# Altium schematic symbol library HDMI Connectors.SchLib: 3 symbols
Pins are listed as number, name and electrical type; pins without a type are passive.

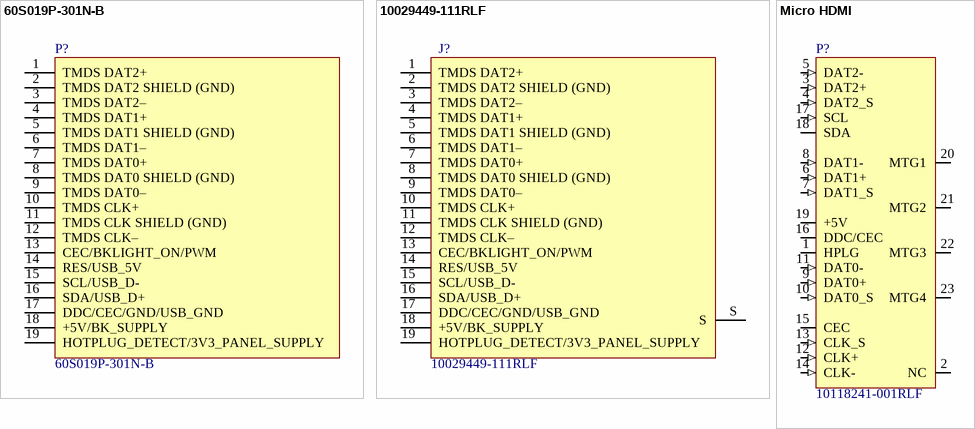
[diagram p0: symbols 60S019P-301N-B to Micro HDMI]

## 60S019P-301N-B
designator P?
HDMI, Mini, 19p PLUG, PC BMOUNT; Value: 60S019P-301N-B
footprint 60S019P-301N-B
pins: 1 TMDS DAT2+ , 2 TMDS DAT2 SHIELD (GND), 3 TMDS DAT2–, 4 TMDS DAT1+, 5 TMDS DAT1 SHIELD (GND), 6 TMDS DAT1–, 7 TMDS DAT0+ , 8 TMDS DAT0 SHIELD (GND), 9 TMDS DAT0–, 10 TMDS CLK+ , 11 TMDS CLK SHIELD (GND), 12 TMDS CLK–, 13 CEC/BKLIGHT_ON/PWM, 14 RES/USB_5V, 15 SCL/USB_D-, 16 SDA/USB_D+, 17 DDC/CEC/GND/USB_GND, 18 +5V/BK_SUPPLY, 19 HOTPLUG_DETECT/3V3_PANEL_SUPPLY

## 10029449-111RLF
designator J?
CONN HDMI RECPT 19POS SMT R/A; Manufacturer: Amphenol FCI; Number of Contacts: 19; Gender: Receptacle; Specifications: HDMI™ 1.4; Number of Ports: 1; Current Rating: 0.5A; Voltage - Rated: 40V; Mating Cycles: 10000; Shielding: Shielded; Material Flammability Rating: UL94 V-0; Supplier 1: Digi-Key; Manufacturer Part Number: 10029449-111RLF; RoHS: RoHS Compliant; Category: Connectors, Interconnects; Stock 1: 32951; Pricing 1: 1=0.74, 10=0.69, 25=0.6212, 50=0.5522, 100=0.5293 (USD); Packaging: Cut Tape (CT); Part Status: Active; Connector Type: HDMI; Mounting Type: Surface Mount, Right Angle; Through Hole; Mounting Feature: Horizontal; Termination: Solder; Features: -; Ingress Protection: -; Operating Temperature: -20°C ~ 85°C; Contact Finish: Gold; Shell/Shielding Material: Brass; Insulation Color: Black; ComponentLink1URL: http://portal.fciconnect.com/Comergent//fci/drawing/10029449.pdf; ComponentLink1Description: http://portal.fciconnect.com/Comergent//fci/drawing/10029449.pdf; Value: 10029449-111RLF; Supplier Part Number 1: 609-4614-1-ND
footprint 10029449-111RLF
pins: 1 TMDS DAT2+ , 2 TMDS DAT2 SHIELD (GND), 3 TMDS DAT2–, 4 TMDS DAT1+, 5 TMDS DAT1 SHIELD (GND), 6 TMDS DAT1–, 7 TMDS DAT0+ , 8 TMDS DAT0 SHIELD (GND), 9 TMDS DAT0–, 10 TMDS CLK+ , 11 TMDS CLK SHIELD (GND), 12 TMDS CLK–, 13 CEC/BKLIGHT_ON/PWM, 14 RES/USB_5V, 15 SCL/USB_D-, 16 SDA/USB_D+, 17 DDC/CEC/GND/USB_GND, 18 +5V/BK_SUPPLY, 19 HOTPLUG_DETECT/3V3_PANEL_SUPPLY, S

## Micro HDMI
designator P?, comment 10118241-001RLF
CONN HDMI RECPT 19POS SMT R/A; Manuf1: FCI; Number of Contacts: 19; Gender: Receptacle; Populated: Yes; Supplier 1: Digi-Key; Supplier Part Number 1: 609-4615-6-ND; RoHS: RoHS Compliant; Category: Connectors, Interconnects; Stock 1: 6779; Pricing 1: 1=1.34, 10=1.174, 25=1.1052, 50=1.059, 100=1.013, 250=0.92092 (USD); Connector Type: HDMI; Specifications: -; Mounting Type: Surface Mount, Right Angle, Horizontal; Features: Shielded, Solder Retention; Packaging: Digi-Reel®; Ingress Protection: -; ComponentLink1URL: http://portal.fciconnect.com/Comergent//fci/drawing/10118241.pdf; ComponentLink1Description: http://portal.fciconnect.com/Comergent//fci/drawing/10118241.pdf; Manuf1Partnumber: 10118241-001RLF; Value: 10118241-001RLF
footprint CONN19_HDMI
pins: 1 HPLG, 2 NC, 3 DAT2+ (in), 4 DAT2_S (in), 5 DAT2- (in), 6 DAT1+ (in), 7 DAT1_S (in), 8 DAT1- (in), 9 DAT0+ (in), 10 DAT0_S (in), 11 DAT0- (in), 12 CLK+ (in), 13 CLK_S (in), 14 CLK- (in), 15 CEC (io), 16 DDC/CEC (io), 17 SCL (in), 18 SDA (io), 19 +5V (power), 20 MTG1, 21 MTG2, 22 MTG3, 23 MTG4